# Altium footprint library MKP 100nF 275VAC.PcbLib: 1 footprints
Each footprint in its own frame and in the unit in brackets; x right, y up, seen from the top. Pads: shape width x height; smd on the part's side, far side on the other; paste and mask are expansions set on the pad; w line width, h text height; cw(c..) or ccw(c..) is an arc to the next point about the centre after c.
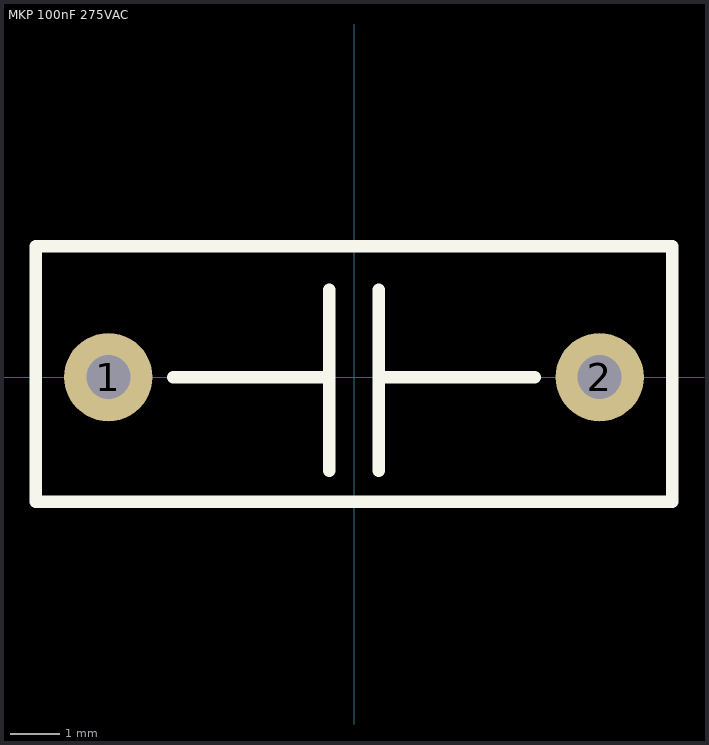
[diagram p0: the footprint, top view; thin cyan lines are the x and y axes]

## MKP 100nF 275VAC [mm]
pads (2):
  round 1.8 hole 0.9: 1(-5,0) 2(5,0)
Top Overlay:
  lines w0.254: -3.683,0 -0.508,0 ; -0.508,-1.905 -0.508,0 ; -0.508,1.778 -0.508,0 ; 0.508,-1.905 0.508,0 ; 0.508,1.778 0.508,0 ; 3.683,0 0.508,0 ; -6.477,-2.54 6.477,-2.54 6.477,2.667 -6.477,2.667 -6.477,-2.54
3D body "User Library-B32671L_5x11x13.STEP": height 11.55, standoff -2.95, extent -6.5,-2.5 6.5,2.5